# EAGLE library part TI_TCA9517 (library Nwazet.Go)
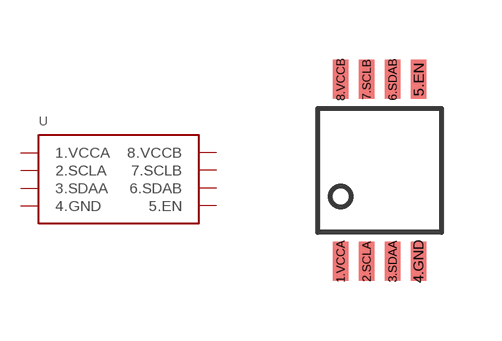
[diagram p26: symbol with the pads of TI_TCA9517_DGK; footprint TI_TCA9517_DGK]

Designator prefix -

## TI_TCA9517  [TI_TCA9517_DGK]
1.VCCA  1.VCCA  pwr
2.SCLA  2.SCLA
3.SDAA  3.SDAA
4.GND  4.GND  pas
5.EN  5.EN
6.SDAB  6.SDAB
7.SCLB  7.SCLB
8.VCCB  8.VCCB  pwr

## Footprint TI_TCA9517_DGK (pad centres in mm)
smd 0.38 x 0.975: 1.VCCA -0.975,-2.275; 2.SCLA -0.325,-2.275; 3.SDAA 0.325,-2.275; 4.GND 0.975,-2.275; 5.EN 0.975,2.275; 6.SDAB 0.325,2.275; 7.SCLB -0.325,2.275; 8.VCCB -0.975,2.275